# EAGLE library part SD_MICRO_SDIO_4BIT (library PaxInstruments-Connectors)
Micro SD Card
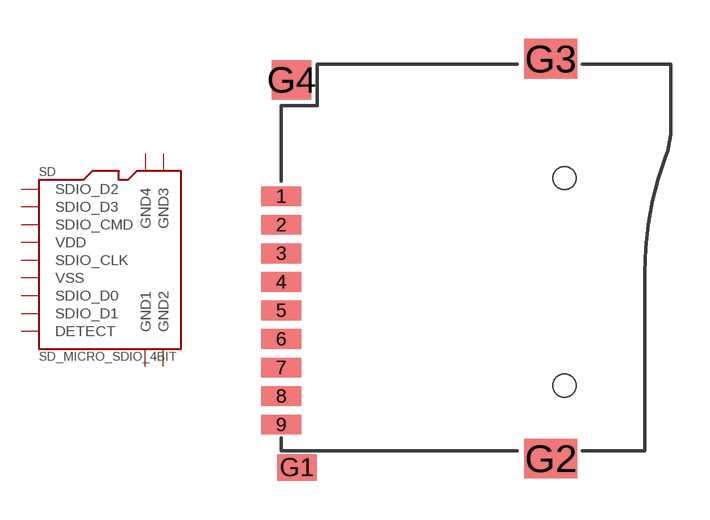
[diagram p2: symbol with the pads of SD_MICRO_1; footprint SD_MICRO_1]

Designator prefix SD

## SD_MICRO_SDIO_4BIT (MF: Suntech; MPN: ST-TF-003A)  [SD_MICRO_1]
1  SDIO_D2
2  SDIO_D3
3  SDIO_CMD
4  VDD
5  SDIO_CLK
6  VSS
7  SDIO_D0
8  SDIO_D1
9  DETECT
G1  GND1
G2  GND2
G3  GND3
G4  GND4

## Footprint SD_MICRO_1 (pad centres in mm)
smd 1.524 x 0.762: 1 -7.493,2.414; 2 -7.493,1.314; 3 -7.493,0.214; 4 -7.493,-0.886; 5 -7.493,-1.986; 6 -7.493,-3.086; 7 -7.493,-4.186; 8 -7.493,-5.286; 9 -7.493,-6.386
smd 1.524 x 1.016: G1 -6.893,-8.032
smd 2.032 x 1.524: G2 2.88,-7.686; G3 2.88,7.714
smd 1.524 x 1.524: G4 -7.101,6.895
hole 0.889 at 3.407,-4.886
hole 0.889 at 3.407,3.114